# Altium footprint library PcbLib1.PcbLib: 6 footprints
Each footprint in its own frame and in the unit in brackets; x right, y up, seen from the top. Pads: shape width x height; smd on the part's side, far side on the other; paste and mask are expansions set on the pad; w line width, h text height; cw(c..) or ccw(c..) is an arc to the next point about the centre after c.
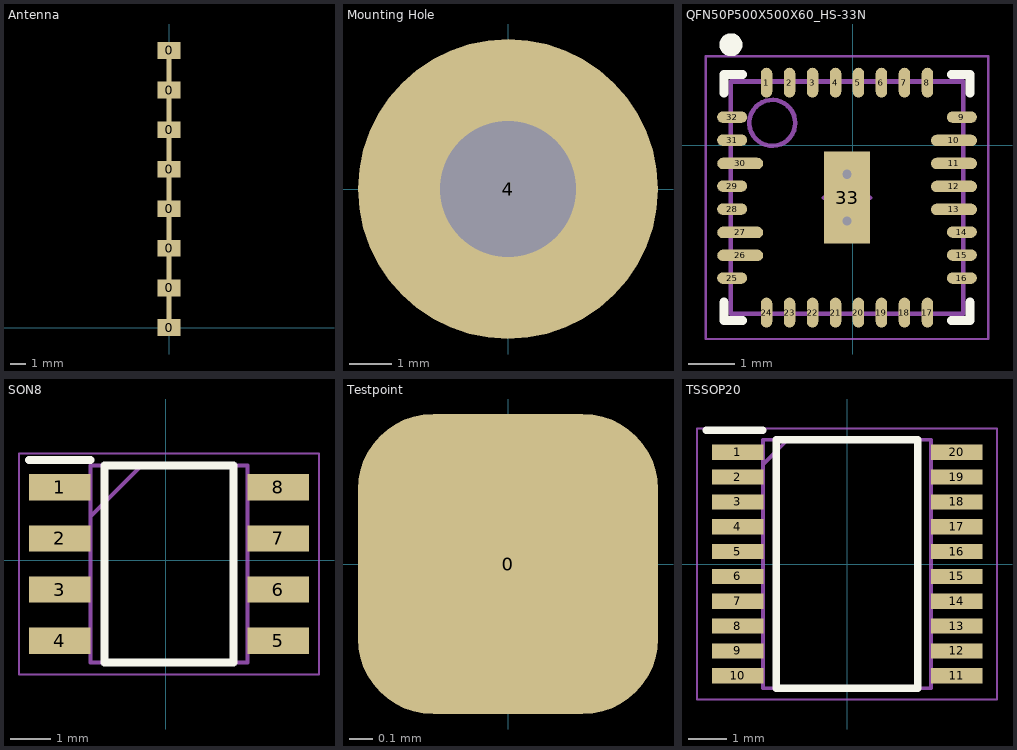
[diagram p0: the footprints below, top view; thin cyan lines are the x and y axes]

## Antenna [mm]
pads (9):
  rect 1.509x1.094 smd: 0(0,0) 0(0,2.6) 0(0,5.2) 0(0,7.8) 0(0,10.4) 0(0,13) 0(0,15.6) 0(0,18.2)
  rect 0.35x19 smd: 0(0,9.1)

## Mounting Hole [mm]
pads (1):
  round 7 hole 3.175: 4(0,0)

## QFN50P500X500X60_HS-33N [mm] "QFN, 32-Leads, Body 5.00x5.00mm, Pitch 0.50mm, Thermal Pad 4.00x2.20mm, IPC Medium Density"
height 0.6
pads (33):
  oval 0.25x0.65 smd: 1(-1.877,1.357) 2(-1.377,1.357) 3(-0.877,1.357) 4(-0.377,1.357) 5(0.123,1.357) 6(0.623,1.357) 7(1.123,1.357) 8(1.623,1.357) 17(1.623,-3.643) 18(1.123,-3.643) 19(0.623,-3.643) 20(0.123,-3.643) 21(-0.377,-3.643) 22(-0.877,-3.643) 23(-1.377,-3.643) 24(-1.877,-3.643)
  oval 0.65x0.25 smd: 9(2.373,0.607) 14(2.373,-1.893) 15(2.373,-2.393) 16(2.373,-2.893) 25(-2.627,-2.893) 28(-2.627,-1.393) 29(-2.627,-0.893) 31(-2.627,0.107) 32(-2.627,0.607)
  oval 1x0.25 smd: 10(2.2,0.1) 11(2.2,-0.4) 12(2.2,-0.9) 13(2.2,-1.4) 26(-2.45,-2.4) 27(-2.45,-1.9) 30(-2.45,-0.4)
  rect 1x2 smd: 33(-0.127,-1.143)
via -0.127,-1.651 diameter 0.5 hole 0.2
via -0.127,-0.635 diameter 0.5 hole 0.2
Top Overlay:
  circle w0.25: c-2.652,2.182 r0.125
  lines w0.2: -2.802,-3.418 -2.802,-3.818 -2.402,-3.818 ; -2.802,1.132 -2.802,1.532 -2.402,1.532 ; 2.148,-3.818 2.548,-3.818 2.548,-3.418 ; 2.148,1.532 2.548,1.532 2.548,1.132
Mechanical 13:
  circle w0.1: c-1.752,0.482 r0.5
  lines w0.1: -2.652,-3.668 2.398,-3.668 2.398,1.382 -2.652,1.382 -2.652,-3.668
Mechanical 15:
  lines w0.05: -3.202,-4.218 2.948,-4.218 2.948,1.932 -3.202,1.932 -3.202,-4.218
  lines w0.1: -0.627,-1.143 0.373,-1.143 ; -0.127,-1.643 -0.127,-0.643
3D body: height 0.6, standoff 0, extent -2.652,-3.668 2.398,1.382

## SON8 [mm]
pads (8):
  rect 1.525x0.65 smd: 1(-2.629,1.811) 2(-2.629,0.541) 3(-2.629,-0.729) 4(-2.629,-1.999) 5(2.795,-1.999) 6(2.795,-0.729) 7(2.795,0.541) 8(2.795,1.811)
Top Overlay:
  lines w0.2: -3.392,2.486 -1.867,2.486 ; -1.517,-2.544 -1.517,2.356 1.683,2.356 1.683,-2.544 -1.517,-2.544
Mechanical 13:
  lines w0.1: -1.867,1.086 -0.597,2.356 ; -1.867,-2.544 -1.867,2.356 2.033,2.356 2.033,-2.544 -1.867,-2.544
Mechanical 15:
  lines w0.05: -3.642,-2.844 -3.642,2.656 3.808,2.656 3.808,-2.844 -3.642,-2.844
3D body "NE555DR.stp": height 1.75, standoff 0, extent -2.917,-2.544 3.083,2.356

## Testpoint [mm]
pads (1):
  rrect50% 1.27x1.27 smd: 0(0,0)

## TSSOP20 [mm]
pads (20):
  rect 1.35x0.4 smd: 1(-2.863,2.925) 2(-2.863,2.275) 3(-2.863,1.625) 4(-2.863,0.975) 5(-2.863,0.325) 6(-2.863,-0.325) 7(-2.863,-0.975) 8(-2.863,-1.625) 9(-2.863,-2.275) 10(-2.863,-2.925) 11(2.875,-2.925) 12(2.875,-2.275) 13(2.875,-1.625) 14(2.875,-0.975) 15(2.875,-0.325) 16(2.875,0.325) 17(2.875,0.975) 18(2.875,1.625) 19(2.875,2.275) 20(2.875,2.925)
Top Overlay:
  lines w0.2: -3.675,3.5 -2.2,3.5 ; -1.85,-3.25 -1.85,3.25 1.85,3.25 1.85,-3.25 -1.85,-3.25
Mechanical 13:
  lines w0.1: -2.2,2.6 -1.55,3.25 ; -2.2,-3.25 -2.2,3.25 2.2,3.25 2.2,-3.25 -2.2,-3.25
Mechanical 15:
  lines w0.05: -3.925,-3.55 -3.925,3.55 3.925,3.55 3.925,-3.55 -3.925,-3.55
3D body "?????? _ TSSOP-20.stp": height 1.35, standoff 0.03, extent -3.215,-3.25 3.2,3.25